# Altium integrated library TI Data Converters Digital to Analog Converter.IntLib: 1533 symbols (part 47 of 99)
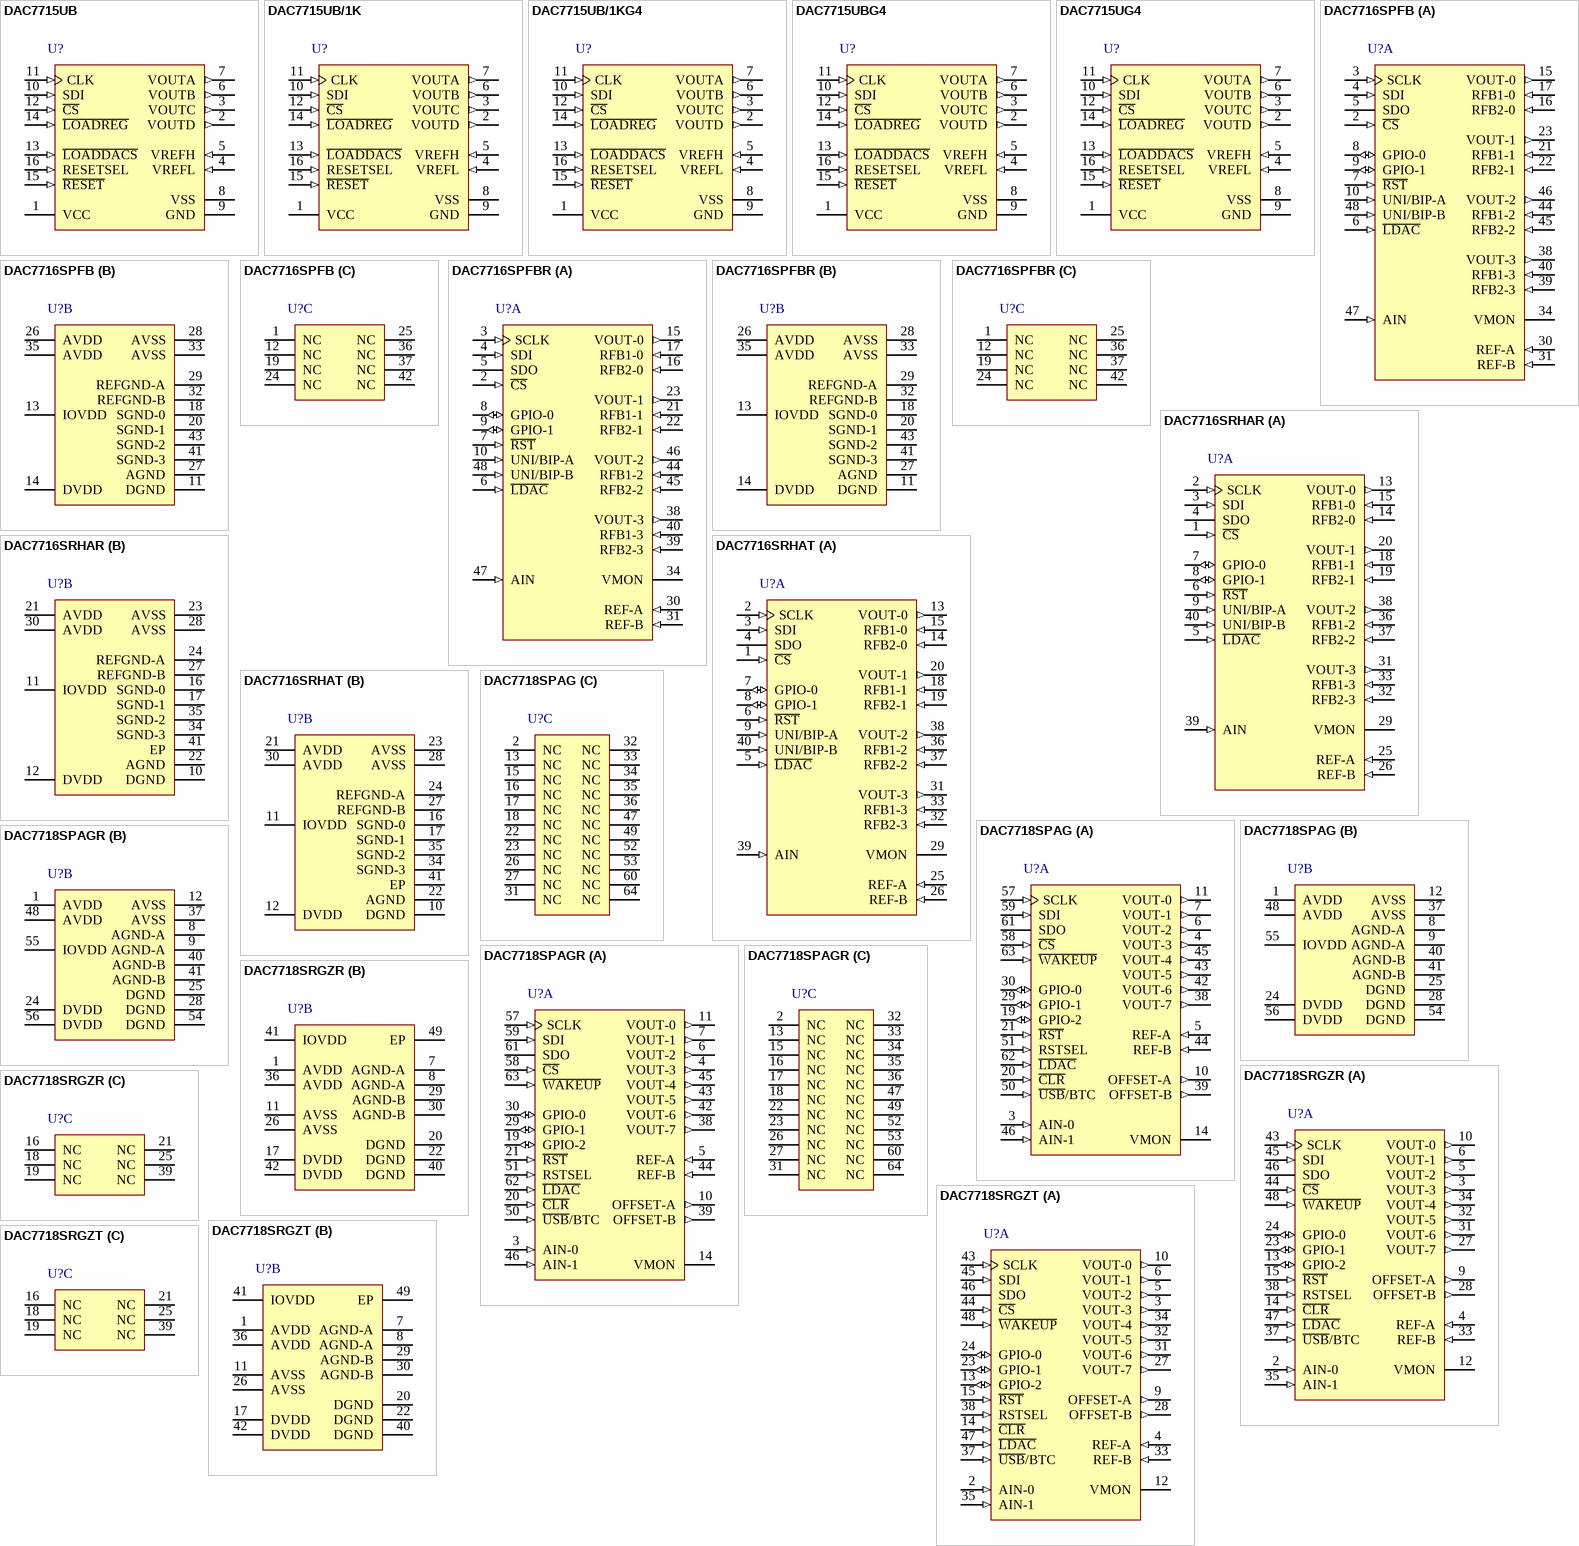
[diagram p119: symbols DAC7715UB to DAC7718SRGZT]

## DAC7718SPAGR
designator U?
Octal, Low Power, 12-Bit, +/- 16.5 V Output Serial Input DAC, -40 to 85 degC, 64-pin QFP (PAG64), Green (RoHS & no Sb/Br); Manufacturer: Texas Instruments; PartNumber: DAC7718SPAGR; DAC Channels: 8; DNL(Max)(+/-LSB): 1; Interface: Serial SPI; Power Consumption(Typ)(mW): 115; Resolution(Bits): 12; Settling Time(us): 10; SubFamily: Precision DAC (=<10MSPS); DatasheetVersion: SBAS361A; PackageVersion: 4040282/C, 11/1996; PackageReference: PAG64; PackageDescription: 64-Pin Plastic Flat Pack, Body 10 x 10 mm, Pitch 0.50 mm; Supplier 1: Digi-Key; Supplier Part Number 1: DAC7718SPAGR-ND; Supplier 2: Mouser; Supplier Part Number 2: 595-DAC7718SPAGR; Eco-Plan: Green (RoHS & no Sb/Br); INL(Max)(+/-LSB): 1; Mounting Technology: Surface Mount; Code_JEDEC: MS-026; ComponentLink1Description: Manufacturer URL; ComponentLink1URL: http://www.ti.com/; ComponentLink2Description: Datasheet; ComponentLink2URL: http://www.ti.com/general/docs/lit/getliterature.tsp?genericPartNumber=DAC7718&fileType=pdf; ComponentLink3Description: Package Specification; ComponentLink3URL: http://www.ti.com/lit/ml/mtqf006a/mtqf006a.pdf
footprint TI-PAG64_N (QFP, 64-Leads, Body 10x10mm, Pitch 0.5mm, IPC Medium Density)
footprint TI-PAG64_L (QFP, 64-Leads, Body 10x10mm, Pitch 0.5mm, IPC High Density)
footprint TI-PAG64_M (QFP, 64-Leads, Body 10x10mm, Pitch 0.5mm, IPC Low Density)
part A pins: 3 AIN-0 (in) "Auxiliary analog input 0, directly routed to the analog mux", 4 VOUT-3 (out) "DAC-3 output", 5 REF-A (in) "Group A(1) reference input", 6 VOUT-2 (out) "DAC-2 output", 7 VOUT-1 (out) "DAC-1 output", 10 OFFSET-A (out) "OFFSET DAC-A analog output. Must be connected to AGND-A during single power-supply operation (AVSS = 0V). This pin is not intended to drive an external load.", 11 VOUT-0 (out) "DAC-0 output", 14 VMON (hiz) "Analog monitor output. This pin is either in Hi-Z status, connected to one of the eight DAC outputs, reference buffer outputs, offset DAC outputs, or one of the auxiliary analog inputs, depending on the content of the (See Datasheet)", 19 GPIO-2 (io) "General-purpose digital input/output 2. This pin is a bidirectional digital input/output, open-drain and requires an external pull-up resistor. See the GPIO Pins section for details.", 20 ~{CLR} (in) "Clear input, level triggered. When the C\L\R\ pin is logic '0', all VOUT-X pins connect to AGND-x through switches and internal low-impedance. When the C\L\R\ pin is logic '1', all VOUT-X pins connect to the amplifier (See Datasheet)", 21 ~{RST} (in) "Reset input (active low). Logic low on this pin resets the DAC registers and DACs to the values defined by the RSTSEL pin. C\S\ must be logic high when R\S\T\ is active.", 29 GPIO-1 (io) "General-purpose digital input/output 1. This pin is a bidirectional digital input/output, open-drain and requires an external resistor. See the GPIO Pins section for details.", 30 GPIO-0 (io) "General-purpose digital input/output 0. This pin is a bidirectional digital input/output, open-drain and requires an external resistor. See the GPIO Pins section for details.", 38 VOUT-7 (out) "DAC-7 output", 39 OFFSET-B (out) "OFFSET DAC-B analog output. Must be connected to AGND-B during single-supply operation (AVSS = 0V).", 42 VOUT-6 (out) "DAC-6 output", 43 VOUT-5 (out) "DAC-5 output", 44 REF-B (in) "Group B reference input", 45 VOUT-4 (out) "DAC-4 output", 46 AIN-1 (in) "Auxiliary analog input 1, directly routed to the analog mux", 50 ~{USB}/BTC (in) "Data format selection of Input DAC data and Offset DAC data. Data are in straight binary format when connected to DGND or in twos complement format when connected to IOVDD. The command data are always in straight binary (See Datasheet)", 51 RSTSEL (in) "Output reset selection. Selects the output voltage on the VOUT pin after power-on or hardware reset. Refer to the Power-On Reset section for details.", 57 SCLK (in) "SPI bus serial clock input", 58 ~{CS} (in) "SPI bus chip select input (active low). Data are not clocked into SDI unless C\S\ is low. When C\S\ is high, SDO is in a high-impedance state and the SCLK and SDI signals are blocked from the device.", 59 SDI (in) "SPI bus serial data input", 61 SDO (hiz) "SPI bus serial data output. When the DSDO bit = '0', the SDO pin works as an output in normal operation. When the DSDO bit = '1', SDO is always in a Hi-Z state, regardless of the C\S\ pin status. Refer to the Timing Diagrams (See Datasheet)", 62 ~{LDAC} (in) "Load DAC latch control input (active low). When L\D\A\C\ is low, the DAC latch is transparent and the contents of the DAC Data Register are transferred to it. The DAC output changes to the corresponding level simultaneously (See Datasheet)", 63 ~{WAKEUP} (in) "Wake-up input (active low). Restores the SPI from sleep to normal operation. See the Daisy-Chain Operation section for details."
part B pins: 1 AVDD (power) "Positive analog power supply", 8 AGND-A (power) "Group A analog ground and the ground of REF-A. This pin must be tied to AGND-B and DGND.", 9 AGND-A (power) "Group A analog ground and the ground of REF-A. This pin must be tied to AGND-B and DGND.", 12 AVSS (power) "Negative analog power supply", 24 DVDD (power) "Digital power supply", 25 DGND (power) "Digital ground", 28 DGND (power) "Digital ground", 37 AVSS (power) "Negative analog power supply", 40 AGND-B (power) "Group B(1) analog ground and the ground of REF-B. This pin must be tied to AGND-A and DGND.", 41 AGND-B (power) "Group B analog ground and the ground of REF-B. This pin must be tied to AGND-A and DGND.", 48 AVDD (power) "Positive analog power supply", 54 DGND (power) "Digital ground", 55 IOVDD (power) "Interface power", 56 DVDD (power) "Digital power supply"
part C pins: 2 NC "Not connected", 13 NC "Not connected", 15 NC "Not connected", 16 NC "Not connected", 17 NC "Not connected", 18 NC "Not connected", 22 NC "Not connected", 23 NC "Not connected", 26 NC "Not connected", 27 NC "Not connected", 31 NC "Not connected", 32 NC "Not connected", 33 NC "Not connected", 34 NC "Not connected", 35 NC "Not connected", 36 NC "Not connected", 47 NC "Not connected", 49 NC "Not connected", 52 NC "Not connected", 53 NC "Not connected", 60 NC "Not connected", 64 NC "Not connected"

## DAC7718SRGZR
designator U?
Octal, Low Power, 12-Bit, +/- 16.5 V Output Serial Input DAC, -40 to 85 degC, 48-pin QFN (RGZ48), Green (RoHS & no Sb/Br); Manufacturer: Texas Instruments; PartNumber: DAC7718SRGZR; DAC Channels: 8; DNL(Max)(+/-LSB): 1; Interface: Serial SPI; Power Consumption(Typ)(mW): 115; Resolution(Bits): 12; Settling Time(us): 10; SubFamily: Precision DAC (=<10MSPS); DatasheetVersion: SBAS361A; PackageVersion: 4204101/F, 06/2011; PackageReference: RGZ48-5600X5600TP; PackageDescription: 48-Lead, Plastic Flat Pack, Body Size 7 x 7 mm, Pitch 0.5 mm; Supplier 1: Digi-Key; Supplier Part Number 1: DAC7718SRGZR-ND; Supplier 2: Mouser; Supplier Part Number 2: 595-DAC7718SRGZR; Eco-Plan: Green (RoHS & no Sb/Br); INL(Max)(+/-LSB): 1; Mounting Technology: Surface Mount; Code_JEDEC: MO-220; ComponentLink1Description: Manufacturer URL; ComponentLink1URL: http://www.ti.com/; ComponentLink2Description: Datasheet; ComponentLink2URL: http://www.ti.com/general/docs/lit/getliterature.tsp?genericPartNumber=DAC7718&fileType=pdf; ComponentLink3Description: Package Specification; ComponentLink3URL: http://www.ti.com/lit/ml/mpqf123e/mpqf123e.pdf
footprint TI-RGZ48-5600X5600TP_V (QFN, 48-Leads, Body 7x7mm, Pitch 0.5mm, Thermal Pad 5.6x5.6mm)
part A pins: 2 AIN-0 (in) "Auxiliary analog input 0, directly routed to the analog mux", 3 VOUT-3 (out) "DAC-3 output", 4 REF-A (in) "Group A(1) reference input", 5 VOUT-2 (out) "DAC-2 output", 6 VOUT-1 (out) "DAC-1 output", 9 OFFSET-A (out) "OFFSET DAC-A analog output. Must be connected to AGND-A during single power-supply operation (AVSS = 0V). This pin is not intended to drive an external load.", 10 VOUT-0 (out) "DAC-0 output", 12 VMON (hiz) "Analog monitor output. This pin is either in Hi-Z status, connected to one of the eight DAC outputs, reference buffer outputs, offset DAC outputs, or one of the auxiliary analog inputs, depending on the content of the (See Datasheet)", 13 GPIO-2 (io) "General-purpose digital input/output 2. This pin is a bidirectional digital input/output, open-drain and requires an external pull-up resistor. See the GPIO Pins section for details.", 14 ~{CLR} (in) "Clear input, level triggered. When the C\L\R\ pin is logic '0', all VOUT-X pins connect to AGND-x through switches and internal low-impedance. When the C\L\R\ pin is logic '1', all VOUT-X pins connect to the amplifier (See Datasheet)", 15 ~{RST} (in) "Reset input (active low). Logic low on this pin resets the DAC registers and DACs to the values defined by the RSTSEL pin. C\S\ must be logic high when R\S\T\ is active.", 23 GPIO-1 (io) "General-purpose digital input/output 1. This pin is a bidirectional digital input/output, open-drain and requires an external resistor. See the GPIO Pins section for details.", 24 GPIO-0 (io) "General-purpose digital input/output 0. This pin is a bidirectional digital input/output, open-drain and requires an external resistor. See the GPIO Pins section for details.", 27 VOUT-7 (out) "DAC-7 output", 28 OFFSET-B (out) "OFFSET DAC-B analog output. Must be connected to AGND-B during single-supply operation (AVSS = 0V).", 31 VOUT-6 (out) "DAC-6 output", 32 VOUT-5 (out) "DAC-5 output", 33 REF-B (in) "Group B reference input", 34 VOUT-4 (out) "DAC-4 output", 35 AIN-1 (in) "Auxiliary analog input 1, directly routed to the analog mux", 37 ~{USB}/BTC (in) "Data format selection of Input DAC data and Offset DAC data. Data are in straight binary format when connected to DGND or in twos complement format when connected to IOVDD. The command data are always in straight binary (See Datasheet)", 38 RSTSEL (in) "Output reset selection. Selects the output voltage on the VOUT pin after power-on or hardware reset. Refer to the Power-On Reset section for details.", 43 SCLK (in) "SPI bus serial clock input", 44 ~{CS} (in) "SPI bus chip select input (active low). Data are not clocked into SDI unless C\S\ is low. When C\S\ is high, SDO is in a high-impedance state and the SCLK and SDI signals are blocked from the device.", 45 SDI (in) "SPI bus serial data input", 46 SDO (hiz) "SPI bus serial data output. When the DSDO bit = '0', the SDO pin works as an output in normal operation. When the DSDO bit = '1', SDO is always in a Hi-Z state, regardless of the CS pin status. Refer to the Timing Diagrams (See Datasheet)", 47 ~{LDAC} (in) "Load DAC latch control input (active low). When L\D\A\C\ is low, the DAC latch is transparent and the contents of the DAC Data Register are transferred to it. The DAC output changes to the corresponding level simultaneously (See Datasheet)", 48 ~{WAKEUP} (in) "Wake-up input (active low). Restores the SPI from sleep to normal operation. See the Daisy-Chain Operation section for details."
part B pins: 1 AVDD (power) "Positive analog power supply", 7 AGND-A (power) "Group A analog ground and the ground of REF-A. This pin must be tied to AGND-B and DGND.", 8 AGND-A (power) "Group A analog ground and the ground of REF-A. This pin must be tied to AGND-B and DGND.", 11 AVSS (power) "Negative analog power supply", 17 DVDD (power) "Digital power supply", 20 DGND (power) "Digital ground", 22 DGND (power) "Digital ground", 26 AVSS (power) "Negative analog power supply", 29 AGND-B (power) "Group B(1) analog ground and the ground of REF-B. This pin must be tied to AGND-A and DGND.", 30 AGND-B (power) "Group B analog ground and the ground of REF-B. This pin must be tied to AGND-A and DGND.", 36 AVDD (power) "Positive analog power supply", 40 DGND (power) "Digital ground", 41 IOVDD (power) "Interface power", 42 DVDD (power) "Digital power supply", 49 EP "The thermal pad is internally connected to the substrate. This pad can be connected to AVSS or left floating. Keep the thermal pad separate from the digital ground, if possible."
part C pins: 16 NC "Not connected", 18 NC "Not connected", 19 NC "Not connected", 21 NC "Not connected", 25 NC "Not connected", 39 NC "Not connected"

## DAC7718SRGZT
designator U?
Octal, Low Power, 12-Bit, +/- 16.5 V Output Serial Input DAC, -40 to 85 degC, 48-pin QFN (RGZ48), Green (RoHS & no Sb/Br); Manufacturer: Texas Instruments; PartNumber: DAC7718SRGZT; DAC Channels: 8; DNL(Max)(+/-LSB): 1; Interface: Serial SPI; Power Consumption(Typ)(mW): 115; Resolution(Bits): 12; Settling Time(us): 10; SubFamily: Precision DAC (=<10MSPS); DatasheetVersion: SBAS361A; PackageVersion: 4204101/F, 06/2011; PackageReference: RGZ48-5600X5600TP; PackageDescription: 48-Lead, Plastic Flat Pack, Body Size 7 x 7 mm, Pitch 0.5 mm; Supplier 1: Digi-Key; Supplier Part Number 1: 296-25558-2-ND; Supplier 2: Digi-Key; Supplier Part Number 2: 296-25558-1-ND; Supplier 3: Digi-Key; Supplier Part Number 3: 296-25558-6-ND; Supplier 4: Farnell; Supplier Part Number 4: 1815723; Supplier 5: Newark; Supplier Part Number 5: 60R2409; Supplier 6: Mouser; Supplier Part Number 6: 595-DAC7718SRGZT; Eco-Plan: Green (RoHS & no Sb/Br); INL(Max)(+/-LSB): 1; Mounting Technology: Surface Mount; Code_JEDEC: MO-220; ComponentLink1Description: Manufacturer URL; ComponentLink1URL: http://www.ti.com/; ComponentLink2Description: Datasheet; ComponentLink2URL: http://www.ti.com/general/docs/lit/getliterature.tsp?genericPartNumber=DAC7718&fileType=pdf; ComponentLink3Description: Package Specification; ComponentLink3URL: http://www.ti.com/lit/ml/mpqf123e/mpqf123e.pdf
footprint TI-RGZ48-5600X5600TP_V (QFN, 48-Leads, Body 7x7mm, Pitch 0.5mm, Thermal Pad 5.6x5.6mm)
part A pins: 2 AIN-0 (in) "Auxiliary analog input 0, directly routed to the analog mux", 3 VOUT-3 (out) "DAC-3 output", 4 REF-A (in) "Group A(1) reference input", 5 VOUT-2 (out) "DAC-2 output", 6 VOUT-1 (out) "DAC-1 output", 9 OFFSET-A (out) "OFFSET DAC-A analog output. Must be connected to AGND-A during single power-supply operation (AVSS = 0V). This pin is not intended to drive an external load.", 10 VOUT-0 (out) "DAC-0 output", 12 VMON (hiz) "Analog monitor output. This pin is either in Hi-Z status, connected to one of the eight DAC outputs, reference buffer outputs, offset DAC outputs, or one of the auxiliary analog inputs, depending on the content of the (See Datasheet)", 13 GPIO-2 (io) "General-purpose digital input/output 2. This pin is a bidirectional digital input/output, open-drain and requires an external pull-up resistor. See the GPIO Pins section for details.", 14 ~{CLR} (in) "Clear input, level triggered. When the C\L\R\ pin is logic '0', all VOUT-X pins connect to AGND-x through switches and internal low-impedance. When the C\L\R\ pin is logic '1', all VOUT-X pins connect to the amplifier (See Datasheet)", 15 ~{RST} (in) "Reset input (active low). Logic low on this pin resets the DAC registers and DACs to the values defined by the RSTSEL pin. C\S\ must be logic high when R\S\T\ is active.", 23 GPIO-1 (io) "General-purpose digital input/output 1. This pin is a bidirectional digital input/output, open-drain and requires an external resistor. See the GPIO Pins section for details.", 24 GPIO-0 (io) "General-purpose digital input/output 0. This pin is a bidirectional digital input/output, open-drain and requires an external resistor. See the GPIO Pins section for details.", 27 VOUT-7 (out) "DAC-7 output", 28 OFFSET-B (out) "OFFSET DAC-B analog output. Must be connected to AGND-B during single-supply operation (AVSS = 0V).", 31 VOUT-6 (out) "DAC-6 output", 32 VOUT-5 (out) "DAC-5 output", 33 REF-B (in) "Group B reference input", 34 VOUT-4 (out) "DAC-4 output", 35 AIN-1 (in) "Auxiliary analog input 1, directly routed to the analog mux", 37 ~{USB}/BTC (in) "Data format selection of Input DAC data and Offset DAC data. Data are in straight binary format when connected to DGND or in twos complement format when connected to IOVDD. The command data are always in straight binary (See Datasheet)", 38 RSTSEL (in) "Output reset selection. Selects the output voltage on the VOUT pin after power-on or hardware reset. Refer to the Power-On Reset section for details.", 43 SCLK (in) "SPI bus serial clock input", 44 ~{CS} (in) "SPI bus chip select input (active low). Data are not clocked into SDI unless C\S\ is low. When C\S\ is high, SDO is in a high-impedance state and the SCLK and SDI signals are blocked from the device.", 45 SDI (in) "SPI bus serial data input", 46 SDO (hiz) "SPI bus serial data output. When the DSDO bit = '0', the SDO pin works as an output in normal operation. When the DSDO bit = '1', SDO is always in a Hi-Z state, regardless of the CS pin status. Refer to the Timing Diagrams (See Datasheet)", 47 ~{LDAC} (in) "Load DAC latch control input (active low). When L\D\A\C\ is low, the DAC latch is transparent and the contents of the DAC Data Register are transferred to it. The DAC output changes to the corresponding level simultaneously (See Datasheet)", 48 ~{WAKEUP} (in) "Wake-up input (active low). Restores the SPI from sleep to normal operation. See the Daisy-Chain Operation section for details."
part B pins: 1 AVDD (power) "Positive analog power supply", 7 AGND-A (power) "Group A analog ground and the ground of REF-A. This pin must be tied to AGND-B and DGND.", 8 AGND-A (power) "Group A analog ground and the ground of REF-A. This pin must be tied to AGND-B and DGND.", 11 AVSS (power) "Negative analog power supply", 17 DVDD (power) "Digital power supply", 20 DGND (power) "Digital ground", 22 DGND (power) "Digital ground", 26 AVSS (power) "Negative analog power supply", 29 AGND-B (power) "Group B(1) analog ground and the ground of REF-B. This pin must be tied to AGND-A and DGND.", 30 AGND-B (power) "Group B analog ground and the ground of REF-B. This pin must be tied to AGND-A and DGND.", 36 AVDD (power) "Positive analog power supply", 40 DGND (power) "Digital ground", 41 IOVDD (power) "Interface power", 42 DVDD (power) "Digital power supply", 49 EP "The thermal pad is internally connected to the substrate. This pad can be connected to AVSS or left floating. Keep the thermal pad separate from the digital ground, if possible."
part C pins: 16 NC "Not connected", 18 NC "Not connected", 19 NC "Not connected", 21 NC "Not connected", 25 NC "Not connected", 39 NC "Not connected"

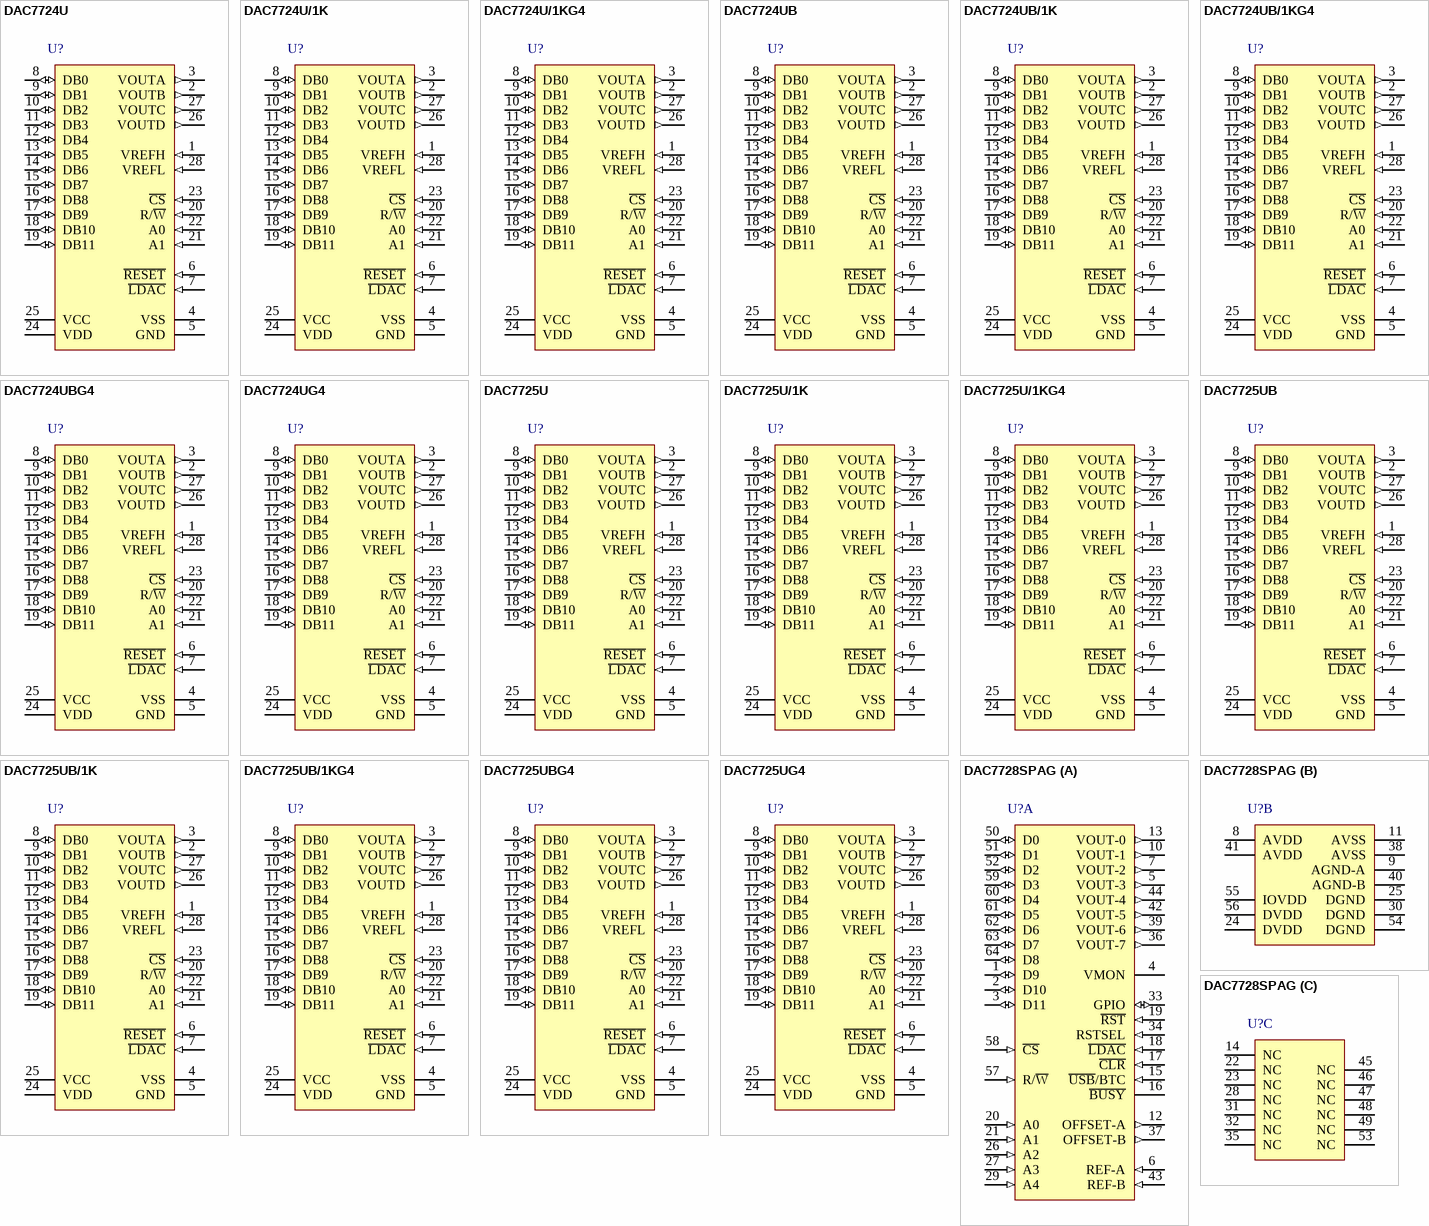
[diagram p36: symbols DAC7724U to DAC7728SPAG]

## DAC7724U
designator U?
12-Bit Quad Voltage Output DAC, -40 to 85 degC, 28-pin SOIC (DW28), Green (RoHS & no Sb/Br); Manufacturer: Texas Instruments; PartNumber: DAC7724U; DAC Channels: 4; DNL(Max)(+/-LSB): 1; INL(Max)(+/-LSB): 2; Interface: Parallel; Power Consumption(Typ)(mW): 45; Resolution(Bits): 12; Settling Time(us): 8; SubFamily: Precision DAC (=<10MSPS); DatasheetVersion: SBAS112; PackageVersion: 4040000-6/G, 01/2011; PackageReference: DW28; PackageDescription: 28-Pin Plastic Small Outline, Body 17.90 x 7.50 mm, Pitch 1.27 mm; Supplier 1: Digi-Key; Supplier Part Number 1: DAC7724U-ND; Supplier 2: Farnell; Supplier Part Number 2: 1384852; Supplier 3: Newark; Supplier Part Number 3: 16M2420; Supplier 4: Mouser; Supplier Part Number 4: 595-DAC7724U; Eco-Plan: Green (RoHS & no Sb/Br); Mounting Technology: Surface Mount; Code_JEDEC: MS-013; ComponentLink1Description: Manufacturer URL; ComponentLink1URL: http://www.ti.com/; ComponentLink2Description: Datasheet; ComponentLink2URL: http://www.ti.com/general/docs/lit/getliterature.tsp?genericPartNumber=DAC7724&fileType=pdf; ComponentLink3Description: Package Specification; ComponentLink3URL: http://www.ti.com/lit/ml/mpds175a/mpds175a.pdf
footprint TI-DW28_N (SOIC, 28-Leads, Body 17.9x7.5mm, Pitch 1.27mm, IPC Medium Density)
footprint TI-DW28_L (SOIC, 28-Leads, Body 17.9x7.5mm, Pitch 1.27mm, IPC High Density)
footprint TI-DW28_M (SOIC, 28-Leads, Body 17.9x7.5mm, Pitch 1.27mm, IPC Low Density)
pins: 1 VREFH (in) "Reference Input Voltage High. Sets maximum output voltage for all DACs.", 2 VOUTB (out) "DAC B Voltage Output.", 3 VOUTA (out) "DAC A Voltage Output.", 4 VSS (power) "Negative Analog Supply Voltage, 0V or -15V.", 5 GND (power) "Ground.", 6 ~{RESET} (in) "Asynchronous Reset Input. Sets DAC and input registers to either mid-scale (800H, DAC7724) or zero-scale (000H, DAC7725) when LOW.", 7 ~{LDAC} (in) "Load DAC Input. All DAC Registers are transparent when LOW.", 8 DB0 (io) "Data Bit 0. Least significant bit of 12-bit word.", 9 DB1 (io) "Data Bit 1", 10 DB2 (io) "Data Bit 2", 11 DB3 (io) "Data Bit 3", 12 DB4 (io) "Data Bit 4", 13 DB5 (io) "Data Bit 5", 14 DB6 (io) "Data Bit 6", 15 DB7 (io) "Data Bit 7", 16 DB8 (io) "Data Bit 8", 17 DB9 (io) "Data Bit 9", 18 DB10 (io) "Data Bit 10", 19 DB11 (io) "Data Bit 11. Most significant bit of 12-bit word.", 20 R/~{W} (in) "Read/Write Control Input (read = HIGH, write = LOW).", 21 A1 (in) "Register/DAC Select (C or D = HIGH, A or B = LOW).", 22 A0 (in) "Register/DAC Select (B or D = HIGH, A or C = LOW).", 23 ~{CS} (in) "Chip Select Input.", 24 VDD (power) "Positive Digital Supply, +5V.", 25 VCC (power) "Positive Analog Supply Voltage, +15V nominal.", 26 VOUTD (out) "DAC D Voltage Output.", 27 VOUTC (out) "DAC C Voltage Output.", 28 VREFL (in) "Reference Input Voltage Low. Sets minimum output voltage for all DACs."

## DAC7724U/1K
designator U?
12-Bit Quad Voltage Output DAC, -40 to 85 degC, 28-pin SOIC (DW28), Green (RoHS & no Sb/Br); Manufacturer: Texas Instruments; PartNumber: DAC7724U/1K; DAC Channels: 4; DNL(Max)(+/-LSB): 1; INL(Max)(+/-LSB): 2; Interface: Parallel; Power Consumption(Typ)(mW): 45; Resolution(Bits): 12; Settling Time(us): 8; SubFamily: Precision DAC (=<10MSPS); DatasheetVersion: SBAS112; PackageVersion: 4040000-6/G, 01/2011; PackageReference: DW28; PackageDescription: 28-Pin Plastic Small Outline, Body 17.90 x 7.50 mm, Pitch 1.27 mm; Supplier 1: Digi-Key; Supplier Part Number 1: DAC7724U/1K-ND; Supplier 2: Mouser; Supplier Part Number 2: 595-DAC7724U/1K; Eco-Plan: Green (RoHS & no Sb/Br); Mounting Technology: Surface Mount; Code_JEDEC: MS-013; ComponentLink1Description: Manufacturer URL; ComponentLink1URL: http://www.ti.com/; ComponentLink2Description: Datasheet; ComponentLink2URL: http://www.ti.com/general/docs/lit/getliterature.tsp?genericPartNumber=DAC7724&fileType=pdf; ComponentLink3Description: Package Specification; ComponentLink3URL: http://www.ti.com/lit/ml/mpds175a/mpds175a.pdf
footprint TI-DW28_N (SOIC, 28-Leads, Body 17.9x7.5mm, Pitch 1.27mm, IPC Medium Density)
footprint TI-DW28_L (SOIC, 28-Leads, Body 17.9x7.5mm, Pitch 1.27mm, IPC High Density)
footprint TI-DW28_M (SOIC, 28-Leads, Body 17.9x7.5mm, Pitch 1.27mm, IPC Low Density)
pins: 1 VREFH (in) "Reference Input Voltage High. Sets maximum output voltage for all DACs.", 2 VOUTB (out) "DAC B Voltage Output.", 3 VOUTA (out) "DAC A Voltage Output.", 4 VSS (power) "Negative Analog Supply Voltage, 0V or -15V.", 5 GND (power) "Ground.", 6 ~{RESET} (in) "Asynchronous Reset Input. Sets DAC and input registers to either mid-scale (800H, DAC7724) or zero-scale (000H, DAC7725) when LOW.", 7 ~{LDAC} (in) "Load DAC Input. All DAC Registers are transparent when LOW.", 8 DB0 (io) "Data Bit 0. Least significant bit of 12-bit word.", 9 DB1 (io) "Data Bit 1", 10 DB2 (io) "Data Bit 2", 11 DB3 (io) "Data Bit 3", 12 DB4 (io) "Data Bit 4", 13 DB5 (io) "Data Bit 5", 14 DB6 (io) "Data Bit 6", 15 DB7 (io) "Data Bit 7", 16 DB8 (io) "Data Bit 8", 17 DB9 (io) "Data Bit 9", 18 DB10 (io) "Data Bit 10", 19 DB11 (io) "Data Bit 11. Most significant bit of 12-bit word.", 20 R/~{W} (in) "Read/Write Control Input (read = HIGH, write = LOW).", 21 A1 (in) "Register/DAC Select (C or D = HIGH, A or B = LOW).", 22 A0 (in) "Register/DAC Select (B or D = HIGH, A or C = LOW).", 23 ~{CS} (in) "Chip Select Input.", 24 VDD (power) "Positive Digital Supply, +5V.", 25 VCC (power) "Positive Analog Supply Voltage, +15V nominal.", 26 VOUTD (out) "DAC D Voltage Output.", 27 VOUTC (out) "DAC C Voltage Output.", 28 VREFL (in) "Reference Input Voltage Low. Sets minimum output voltage for all DACs."

## DAC7724U/1KG4
designator U?
12-Bit Quad Voltage Output DAC, -40 to 85 degC, 28-pin SOIC (DW28), Green (RoHS & no Sb/Br); Manufacturer: Texas Instruments; PartNumber: DAC7724U/1KG4; DAC Channels: 4; DNL(Max)(+/-LSB): 1; INL(Max)(+/-LSB): 2; Interface: Parallel; Power Consumption(Typ)(mW): 45; Resolution(Bits): 12; Settling Time(us): 8; SubFamily: Precision DAC (=<10MSPS); DatasheetVersion: SBAS112; PackageVersion: 4040000-6/G, 01/2011; PackageReference: DW28; PackageDescription: 28-Pin Plastic Small Outline, Body 17.90 x 7.50 mm, Pitch 1.27 mm; Supplier 1: Digi-Key; Supplier Part Number 1: DAC7724U/1KG4-ND; Supplier 2: Mouser; Supplier Part Number 2: 595-DAC7724U/1KG4; Eco-Plan: Green (RoHS & no Sb/Br); Mounting Technology: Surface Mount; Code_JEDEC: MS-013; ComponentLink1Description: Manufacturer URL; ComponentLink1URL: http://www.ti.com/; ComponentLink2Description: Datasheet; ComponentLink2URL: http://www.ti.com/general/docs/lit/getliterature.tsp?genericPartNumber=DAC7724&fileType=pdf; ComponentLink3Description: Package Specification; ComponentLink3URL: http://www.ti.com/lit/ml/mpds175a/mpds175a.pdf
footprint TI-DW28_N (SOIC, 28-Leads, Body 17.9x7.5mm, Pitch 1.27mm, IPC Medium Density)
footprint TI-DW28_L (SOIC, 28-Leads, Body 17.9x7.5mm, Pitch 1.27mm, IPC High Density)
footprint TI-DW28_M (SOIC, 28-Leads, Body 17.9x7.5mm, Pitch 1.27mm, IPC Low Density)
pins: 1 VREFH (in) "Reference Input Voltage High. Sets maximum output voltage for all DACs.", 2 VOUTB (out) "DAC B Voltage Output.", 3 VOUTA (out) "DAC A Voltage Output.", 4 VSS (power) "Negative Analog Supply Voltage, 0V or -15V.", 5 GND (power) "Ground.", 6 ~{RESET} (in) "Asynchronous Reset Input. Sets DAC and input registers to either mid-scale (800H, DAC7724) or zero-scale (000H, DAC7725) when LOW.", 7 ~{LDAC} (in) "Load DAC Input. All DAC Registers are transparent when LOW.", 8 DB0 (io) "Data Bit 0. Least significant bit of 12-bit word.", 9 DB1 (io) "Data Bit 1", 10 DB2 (io) "Data Bit 2", 11 DB3 (io) "Data Bit 3", 12 DB4 (io) "Data Bit 4", 13 DB5 (io) "Data Bit 5", 14 DB6 (io) "Data Bit 6", 15 DB7 (io) "Data Bit 7", 16 DB8 (io) "Data Bit 8", 17 DB9 (io) "Data Bit 9", 18 DB10 (io) "Data Bit 10", 19 DB11 (io) "Data Bit 11. Most significant bit of 12-bit word.", 20 R/~{W} (in) "Read/Write Control Input (read = HIGH, write = LOW).", 21 A1 (in) "Register/DAC Select (C or D = HIGH, A or B = LOW).", 22 A0 (in) "Register/DAC Select (B or D = HIGH, A or C = LOW).", 23 ~{CS} (in) "Chip Select Input.", 24 VDD (power) "Positive Digital Supply, +5V.", 25 VCC (power) "Positive Analog Supply Voltage, +15V nominal.", 26 VOUTD (out) "DAC D Voltage Output.", 27 VOUTC (out) "DAC C Voltage Output.", 28 VREFL (in) "Reference Input Voltage Low. Sets minimum output voltage for all DACs."

## DAC7724UB
designator U?
12-Bit Quad Voltage Output DAC, -40 to 85 degC, 28-pin SOIC (DW28), Green (RoHS & no Sb/Br); Manufacturer: Texas Instruments; PartNumber: DAC7724UB; DAC Channels: 4; DNL(Max)(+/-LSB): 1; Interface: Parallel; Power Consumption(Typ)(mW): 45; Resolution(Bits): 12; Settling Time(us): 8; SubFamily: Precision DAC (=<10MSPS); DatasheetVersion: SBAS112; PackageVersion: 4040000-6/G, 01/2011; PackageReference: DW28; PackageDescription: 28-Pin Plastic Small Outline, Body 17.90 x 7.50 mm, Pitch 1.27 mm; Supplier 1: Digi-Key; Supplier Part Number 1: DAC7724UB-ND; Supplier 2: Farnell; Supplier Part Number 2: 1295975; Supplier 3: Newark; Supplier Part Number 3: 74C9245; Supplier 4: Mouser; Supplier Part Number 4: 595-DAC7724UB; Eco-Plan: Green (RoHS & no Sb/Br); INL(Max)(+/-LSB): 1; Mounting Technology: Surface Mount; Code_JEDEC: MS-013; ComponentLink1Description: Manufacturer URL; ComponentLink1URL: http://www.ti.com/; ComponentLink2Description: Datasheet; ComponentLink2URL: http://www.ti.com/general/docs/lit/getliterature.tsp?genericPartNumber=DAC7724&fileType=pdf; ComponentLink3Description: Package Specification; ComponentLink3URL: http://www.ti.com/lit/ml/mpds175a/mpds175a.pdf
footprint TI-DW28_N (SOIC, 28-Leads, Body 17.9x7.5mm, Pitch 1.27mm, IPC Medium Density)
footprint TI-DW28_L (SOIC, 28-Leads, Body 17.9x7.5mm, Pitch 1.27mm, IPC High Density)
footprint TI-DW28_M (SOIC, 28-Leads, Body 17.9x7.5mm, Pitch 1.27mm, IPC Low Density)
pins: 1 VREFH (in) "Reference Input Voltage High. Sets maximum output voltage for all DACs.", 2 VOUTB (out) "DAC B Voltage Output.", 3 VOUTA (out) "DAC A Voltage Output.", 4 VSS (power) "Negative Analog Supply Voltage, 0V or -15V.", 5 GND (power) "Ground.", 6 ~{RESET} (in) "Asynchronous Reset Input. Sets DAC and input registers to either mid-scale (800H, DAC7724) or zero-scale (000H, DAC7725) when LOW.", 7 ~{LDAC} (in) "Load DAC Input. All DAC Registers are transparent when LOW.", 8 DB0 (io) "Data Bit 0. Least significant bit of 12-bit word.", 9 DB1 (io) "Data Bit 1", 10 DB2 (io) "Data Bit 2", 11 DB3 (io) "Data Bit 3", 12 DB4 (io) "Data Bit 4", 13 DB5 (io) "Data Bit 5", 14 DB6 (io) "Data Bit 6", 15 DB7 (io) "Data Bit 7", 16 DB8 (io) "Data Bit 8", 17 DB9 (io) "Data Bit 9", 18 DB10 (io) "Data Bit 10", 19 DB11 (io) "Data Bit 11. Most significant bit of 12-bit word.", 20 R/~{W} (in) "Read/Write Control Input (read = HIGH, write = LOW).", 21 A1 (in) "Register/DAC Select (C or D = HIGH, A or B = LOW).", 22 A0 (in) "Register/DAC Select (B or D = HIGH, A or C = LOW).", 23 ~{CS} (in) "Chip Select Input.", 24 VDD (power) "Positive Digital Supply, +5V.", 25 VCC (power) "Positive Analog Supply Voltage, +15V nominal.", 26 VOUTD (out) "DAC D Voltage Output.", 27 VOUTC (out) "DAC C Voltage Output.", 28 VREFL (in) "Reference Input Voltage Low. Sets minimum output voltage for all DACs."

## DAC7724UB/1K
designator U?
12-Bit Quad Voltage Output DAC, -40 to 85 degC, 28-pin SOIC (DW28), Green (RoHS & no Sb/Br); Manufacturer: Texas Instruments; PartNumber: DAC7724UB/1K; DAC Channels: 4; DNL(Max)(+/-LSB): 1; Interface: Parallel; Power Consumption(Typ)(mW): 45; Resolution(Bits): 12; Settling Time(us): 8; SubFamily: Precision DAC (=<10MSPS); DatasheetVersion: SBAS112; PackageVersion: 4040000-6/G, 01/2011; PackageReference: DW28; PackageDescription: 28-Pin Plastic Small Outline, Body 17.90 x 7.50 mm, Pitch 1.27 mm; Supplier 1: Digi-Key; Supplier Part Number 1: DAC7724UB/1K-ND; Supplier 2: Mouser; Supplier Part Number 2: 595-DAC7724UB/1K; Eco-Plan: Green (RoHS & no Sb/Br); INL(Max)(+/-LSB): 1; Mounting Technology: Surface Mount; Code_JEDEC: MS-013; ComponentLink1Description: Manufacturer URL; ComponentLink1URL: http://www.ti.com/; ComponentLink2Description: Datasheet; ComponentLink2URL: http://www.ti.com/general/docs/lit/getliterature.tsp?genericPartNumber=DAC7724&fileType=pdf; ComponentLink3Description: Package Specification; ComponentLink3URL: http://www.ti.com/lit/ml/mpds175a/mpds175a.pdf
footprint TI-DW28_N (SOIC, 28-Leads, Body 17.9x7.5mm, Pitch 1.27mm, IPC Medium Density)
footprint TI-DW28_L (SOIC, 28-Leads, Body 17.9x7.5mm, Pitch 1.27mm, IPC High Density)
footprint TI-DW28_M (SOIC, 28-Leads, Body 17.9x7.5mm, Pitch 1.27mm, IPC Low Density)
pins: 1 VREFH (in) "Reference Input Voltage High. Sets maximum output voltage for all DACs.", 2 VOUTB (out) "DAC B Voltage Output.", 3 VOUTA (out) "DAC A Voltage Output.", 4 VSS (power) "Negative Analog Supply Voltage, 0V or -15V.", 5 GND (power) "Ground.", 6 ~{RESET} (in) "Asynchronous Reset Input. Sets DAC and input registers to either mid-scale (800H, DAC7724) or zero-scale (000H, DAC7725) when LOW.", 7 ~{LDAC} (in) "Load DAC Input. All DAC Registers are transparent when LOW.", 8 DB0 (io) "Data Bit 0. Least significant bit of 12-bit word.", 9 DB1 (io) "Data Bit 1", 10 DB2 (io) "Data Bit 2", 11 DB3 (io) "Data Bit 3", 12 DB4 (io) "Data Bit 4", 13 DB5 (io) "Data Bit 5", 14 DB6 (io) "Data Bit 6", 15 DB7 (io) "Data Bit 7", 16 DB8 (io) "Data Bit 8", 17 DB9 (io) "Data Bit 9", 18 DB10 (io) "Data Bit 10", 19 DB11 (io) "Data Bit 11. Most significant bit of 12-bit word.", 20 R/~{W} (in) "Read/Write Control Input (read = HIGH, write = LOW).", 21 A1 (in) "Register/DAC Select (C or D = HIGH, A or B = LOW).", 22 A0 (in) "Register/DAC Select (B or D = HIGH, A or C = LOW).", 23 ~{CS} (in) "Chip Select Input.", 24 VDD (power) "Positive Digital Supply, +5V.", 25 VCC (power) "Positive Analog Supply Voltage, +15V nominal.", 26 VOUTD (out) "DAC D Voltage Output.", 27 VOUTC (out) "DAC C Voltage Output.", 28 VREFL (in) "Reference Input Voltage Low. Sets minimum output voltage for all DACs."

## DAC7724UB/1KG4
designator U?
12-Bit Quad Voltage Output DAC, -40 to 85 degC, 28-pin SOIC (DW28), Green (RoHS & no Sb/Br); Manufacturer: Texas Instruments; PartNumber: DAC7724UB/1KG4; DAC Channels: 4; DNL(Max)(+/-LSB): 1; Interface: Parallel; Power Consumption(Typ)(mW): 45; Resolution(Bits): 12; Settling Time(us): 8; SubFamily: Precision DAC (=<10MSPS); DatasheetVersion: SBAS112; PackageVersion: 4040000-6/G, 01/2011; PackageReference: DW28; PackageDescription: 28-Pin Plastic Small Outline, Body 17.90 x 7.50 mm, Pitch 1.27 mm; Supplier 1: Digi-Key; Supplier Part Number 1: DAC7724UB/1KG4-ND; Supplier 2: Mouser; Supplier Part Number 2: 595-DAC7724UB/1KG4; Eco-Plan: Green (RoHS & no Sb/Br); INL(Max)(+/-LSB): 1; Mounting Technology: Surface Mount; Code_JEDEC: MS-013; ComponentLink1Description: Manufacturer URL; ComponentLink1URL: http://www.ti.com/; ComponentLink2Description: Datasheet; ComponentLink2URL: http://www.ti.com/general/docs/lit/getliterature.tsp?genericPartNumber=DAC7724&fileType=pdf; ComponentLink3Description: Package Specification; ComponentLink3URL: http://www.ti.com/lit/ml/mpds175a/mpds175a.pdf
footprint TI-DW28_N (SOIC, 28-Leads, Body 17.9x7.5mm, Pitch 1.27mm, IPC Medium Density)
footprint TI-DW28_L (SOIC, 28-Leads, Body 17.9x7.5mm, Pitch 1.27mm, IPC High Density)
footprint TI-DW28_M (SOIC, 28-Leads, Body 17.9x7.5mm, Pitch 1.27mm, IPC Low Density)
pins: 1 VREFH (in) "Reference Input Voltage High. Sets maximum output voltage for all DACs.", 2 VOUTB (out) "DAC B Voltage Output.", 3 VOUTA (out) "DAC A Voltage Output.", 4 VSS (power) "Negative Analog Supply Voltage, 0V or -15V.", 5 GND (power) "Ground.", 6 ~{RESET} (in) "Asynchronous Reset Input. Sets DAC and input registers to either mid-scale (800H, DAC7724) or zero-scale (000H, DAC7725) when LOW.", 7 ~{LDAC} (in) "Load DAC Input. All DAC Registers are transparent when LOW.", 8 DB0 (io) "Data Bit 0. Least significant bit of 12-bit word.", 9 DB1 (io) "Data Bit 1", 10 DB2 (io) "Data Bit 2", 11 DB3 (io) "Data Bit 3", 12 DB4 (io) "Data Bit 4", 13 DB5 (io) "Data Bit 5", 14 DB6 (io) "Data Bit 6", 15 DB7 (io) "Data Bit 7", 16 DB8 (io) "Data Bit 8", 17 DB9 (io) "Data Bit 9", 18 DB10 (io) "Data Bit 10", 19 DB11 (io) "Data Bit 11. Most significant bit of 12-bit word.", 20 R/~{W} (in) "Read/Write Control Input (read = HIGH, write = LOW).", 21 A1 (in) "Register/DAC Select (C or D = HIGH, A or B = LOW).", 22 A0 (in) "Register/DAC Select (B or D = HIGH, A or C = LOW).", 23 ~{CS} (in) "Chip Select Input.", 24 VDD (power) "Positive Digital Supply, +5V.", 25 VCC (power) "Positive Analog Supply Voltage, +15V nominal.", 26 VOUTD (out) "DAC D Voltage Output.", 27 VOUTC (out) "DAC C Voltage Output.", 28 VREFL (in) "Reference Input Voltage Low. Sets minimum output voltage for all DACs."

## DAC7724UBG4
designator U?
12-Bit Quad Voltage Output DAC, -40 to 85 degC, 28-pin SOIC (DW28), Green (RoHS & no Sb/Br); Manufacturer: Texas Instruments; PartNumber: DAC7724UBG4; DAC Channels: 4; DNL(Max)(+/-LSB): 1; Interface: Parallel; Power Consumption(Typ)(mW): 45; Resolution(Bits): 12; Settling Time(us): 8; SubFamily: Precision DAC (=<10MSPS); DatasheetVersion: SBAS112; PackageVersion: 4040000-6/G, 01/2011; PackageReference: DW28; PackageDescription: 28-Pin Plastic Small Outline, Body 17.90 x 7.50 mm, Pitch 1.27 mm; Supplier 1: Digi-Key; Supplier Part Number 1: DAC7724UBG4-ND; Supplier 2: Mouser; Supplier Part Number 2: 595-DAC7724UBG4; Eco-Plan: Green (RoHS & no Sb/Br); INL(Max)(+/-LSB): 1; Mounting Technology: Surface Mount; Code_JEDEC: MS-013; ComponentLink1Description: Manufacturer URL; ComponentLink1URL: http://www.ti.com/; ComponentLink2Description: Datasheet; ComponentLink2URL: http://www.ti.com/general/docs/lit/getliterature.tsp?genericPartNumber=DAC7724&fileType=pdf; ComponentLink3Description: Package Specification; ComponentLink3URL: http://www.ti.com/lit/ml/mpds175a/mpds175a.pdf
footprint TI-DW28_N (SOIC, 28-Leads, Body 17.9x7.5mm, Pitch 1.27mm, IPC Medium Density)
footprint TI-DW28_L (SOIC, 28-Leads, Body 17.9x7.5mm, Pitch 1.27mm, IPC High Density)
footprint TI-DW28_M (SOIC, 28-Leads, Body 17.9x7.5mm, Pitch 1.27mm, IPC Low Density)
pins: 1 VREFH (in) "Reference Input Voltage High. Sets maximum output voltage for all DACs.", 2 VOUTB (out) "DAC B Voltage Output.", 3 VOUTA (out) "DAC A Voltage Output.", 4 VSS (power) "Negative Analog Supply Voltage, 0V or -15V.", 5 GND (power) "Ground.", 6 ~{RESET} (in) "Asynchronous Reset Input. Sets DAC and input registers to either mid-scale (800H, DAC7724) or zero-scale (000H, DAC7725) when LOW.", 7 ~{LDAC} (in) "Load DAC Input. All DAC Registers are transparent when LOW.", 8 DB0 (io) "Data Bit 0. Least significant bit of 12-bit word.", 9 DB1 (io) "Data Bit 1", 10 DB2 (io) "Data Bit 2", 11 DB3 (io) "Data Bit 3", 12 DB4 (io) "Data Bit 4", 13 DB5 (io) "Data Bit 5", 14 DB6 (io) "Data Bit 6", 15 DB7 (io) "Data Bit 7", 16 DB8 (io) "Data Bit 8", 17 DB9 (io) "Data Bit 9", 18 DB10 (io) "Data Bit 10", 19 DB11 (io) "Data Bit 11. Most significant bit of 12-bit word.", 20 R/~{W} (in) "Read/Write Control Input (read = HIGH, write = LOW).", 21 A1 (in) "Register/DAC Select (C or D = HIGH, A or B = LOW).", 22 A0 (in) "Register/DAC Select (B or D = HIGH, A or C = LOW).", 23 ~{CS} (in) "Chip Select Input.", 24 VDD (power) "Positive Digital Supply, +5V.", 25 VCC (power) "Positive Analog Supply Voltage, +15V nominal.", 26 VOUTD (out) "DAC D Voltage Output.", 27 VOUTC (out) "DAC C Voltage Output.", 28 VREFL (in) "Reference Input Voltage Low. Sets minimum output voltage for all DACs."

## DAC7724UG4
designator U?
12-Bit Quad Voltage Output DAC, -40 to 85 degC, 28-pin SOIC (DW28), Green (RoHS & no Sb/Br); Manufacturer: Texas Instruments; PartNumber: DAC7724UG4; DAC Channels: 4; DNL(Max)(+/-LSB): 1; INL(Max)(+/-LSB): 2; Interface: Parallel; Power Consumption(Typ)(mW): 45; Resolution(Bits): 12; Settling Time(us): 8; SubFamily: Precision DAC (=<10MSPS); DatasheetVersion: SBAS112; PackageVersion: 4040000-6/G, 01/2011; PackageReference: DW28; PackageDescription: 28-Pin Plastic Small Outline, Body 17.90 x 7.50 mm, Pitch 1.27 mm; Supplier 1: Digi-Key; Supplier Part Number 1: DAC7724UG4-ND; Supplier 2: Mouser; Supplier Part Number 2: 595-DAC7724UG4; Eco-Plan: Green (RoHS & no Sb/Br); Mounting Technology: Surface Mount; Code_JEDEC: MS-013; ComponentLink1Description: Manufacturer URL; ComponentLink1URL: http://www.ti.com/; ComponentLink2Description: Datasheet; ComponentLink2URL: http://www.ti.com/general/docs/lit/getliterature.tsp?genericPartNumber=DAC7724&fileType=pdf; ComponentLink3Description: Package Specification; ComponentLink3URL: http://www.ti.com/lit/ml/mpds175a/mpds175a.pdf
footprint TI-DW28_N (SOIC, 28-Leads, Body 17.9x7.5mm, Pitch 1.27mm, IPC Medium Density)
footprint TI-DW28_L (SOIC, 28-Leads, Body 17.9x7.5mm, Pitch 1.27mm, IPC High Density)
footprint TI-DW28_M (SOIC, 28-Leads, Body 17.9x7.5mm, Pitch 1.27mm, IPC Low Density)
pins: 1 VREFH (in) "Reference Input Voltage High. Sets maximum output voltage for all DACs.", 2 VOUTB (out) "DAC B Voltage Output.", 3 VOUTA (out) "DAC A Voltage Output.", 4 VSS (power) "Negative Analog Supply Voltage, 0V or -15V.", 5 GND (power) "Ground.", 6 ~{RESET} (in) "Asynchronous Reset Input. Sets DAC and input registers to either mid-scale (800H, DAC7724) or zero-scale (000H, DAC7725) when LOW.", 7 ~{LDAC} (in) "Load DAC Input. All DAC Registers are transparent when LOW.", 8 DB0 (io) "Data Bit 0. Least significant bit of 12-bit word.", 9 DB1 (io) "Data Bit 1", 10 DB2 (io) "Data Bit 2", 11 DB3 (io) "Data Bit 3", 12 DB4 (io) "Data Bit 4", 13 DB5 (io) "Data Bit 5", 14 DB6 (io) "Data Bit 6", 15 DB7 (io) "Data Bit 7", 16 DB8 (io) "Data Bit 8", 17 DB9 (io) "Data Bit 9", 18 DB10 (io) "Data Bit 10", 19 DB11 (io) "Data Bit 11. Most significant bit of 12-bit word.", 20 R/~{W} (in) "Read/Write Control Input (read = HIGH, write = LOW).", 21 A1 (in) "Register/DAC Select (C or D = HIGH, A or B = LOW).", 22 A0 (in) "Register/DAC Select (B or D = HIGH, A or C = LOW).", 23 ~{CS} (in) "Chip Select Input.", 24 VDD (power) "Positive Digital Supply, +5V.", 25 VCC (power) "Positive Analog Supply Voltage, +15V nominal.", 26 VOUTD (out) "DAC D Voltage Output.", 27 VOUTC (out) "DAC C Voltage Output.", 28 VREFL (in) "Reference Input Voltage Low. Sets minimum output voltage for all DACs."

## DAC7725U
designator U?
12-Bit Quad Voltage Output DAC, -40 to 85 degC, 28-pin SOIC (DW28), Green (RoHS & no Sb/Br); Manufacturer: Texas Instruments; PartNumber: DAC7725U; DAC Channels: 4; DNL(Max)(+/-LSB): 1; INL(Max)(+/-LSB): 2; Interface: Parallel; Power Consumption(Typ)(mW): 45; Resolution(Bits): 12; Settling Time(us): 8; SubFamily: Precision DAC (=<10MSPS); DatasheetVersion: SBAS112; PackageVersion: 4040000-6/G, 01/2011; PackageReference: DW28; PackageDescription: 28-Pin Plastic Small Outline, Body 17.90 x 7.50 mm, Pitch 1.27 mm; Supplier 1: Digi-Key; Supplier Part Number 1: DAC7725U-ND; Supplier 2: Mouser; Supplier Part Number 2: 595-DAC7725U; Eco-Plan: Green (RoHS & no Sb/Br); Mounting Technology: Surface Mount; Code_JEDEC: MS-013; ComponentLink1Description: Manufacturer URL; ComponentLink1URL: http://www.ti.com/; ComponentLink2Description: Datasheet; ComponentLink2URL: http://www.ti.com/general/docs/lit/getliterature.tsp?genericPartNumber=DAC7725&fileType=pdf; ComponentLink3Description: Package Specification; ComponentLink3URL: http://www.ti.com/lit/ml/mpds175a/mpds175a.pdf
footprint TI-DW28_N (SOIC, 28-Leads, Body 17.9x7.5mm, Pitch 1.27mm, IPC Medium Density)
footprint TI-DW28_L (SOIC, 28-Leads, Body 17.9x7.5mm, Pitch 1.27mm, IPC High Density)
footprint TI-DW28_M (SOIC, 28-Leads, Body 17.9x7.5mm, Pitch 1.27mm, IPC Low Density)
pins: 1 VREFH (in) "Reference Input Voltage High. Sets maximum output voltage for all DACs.", 2 VOUTB (out) "DAC B Voltage Output.", 3 VOUTA (out) "DAC A Voltage Output.", 4 VSS (power) "Negative Analog Supply Voltage, 0V or -15V.", 5 GND (power) "Ground.", 6 ~{RESET} (in) "Asynchronous Reset Input. Sets DAC and input registers to either mid-scale (800H, DAC7724) or zero-scale (000H, DAC7725) when LOW.", 7 ~{LDAC} (in) "Load DAC Input. All DAC Registers are transparent when LOW.", 8 DB0 (io) "Data Bit 0. Least significant bit of 12-bit word.", 9 DB1 (io) "Data Bit 1", 10 DB2 (io) "Data Bit 2", 11 DB3 (io) "Data Bit 3", 12 DB4 (io) "Data Bit 4", 13 DB5 (io) "Data Bit 5", 14 DB6 (io) "Data Bit 6", 15 DB7 (io) "Data Bit 7", 16 DB8 (io) "Data Bit 8", 17 DB9 (io) "Data Bit 9", 18 DB10 (io) "Data Bit 10", 19 DB11 (io) "Data Bit 11. Most significant bit of 12-bit word.", 20 R/~{W} (in) "Read/Write Control Input (read = HIGH, write = LOW).", 21 A1 (in) "Register/DAC Select (C or D = HIGH, A or B = LOW).", 22 A0 (in) "Register/DAC Select (B or D = HIGH, A or C = LOW).", 23 ~{CS} (in) "Chip Select Input.", 24 VDD (power) "Positive Digital Supply, +5V.", 25 VCC (power) "Positive Analog Supply Voltage, +15V nominal.", 26 VOUTD (out) "DAC D Voltage Output.", 27 VOUTC (out) "DAC C Voltage Output.", 28 VREFL (in) "Reference Input Voltage Low. Sets minimum output voltage for all DACs."

## DAC7725U/1K
designator U?
12-Bit Quad Voltage Output DAC, -40 to 85 degC, 28-pin SOIC (DW28), Green (RoHS & no Sb/Br); Manufacturer: Texas Instruments; PartNumber: DAC7725U/1K; DAC Channels: 4; DNL(Max)(+/-LSB): 1; INL(Max)(+/-LSB): 2; Interface: Parallel; Power Consumption(Typ)(mW): 45; Resolution(Bits): 12; Settling Time(us): 8; SubFamily: Precision DAC (=<10MSPS); DatasheetVersion: SBAS112; PackageVersion: 4040000-6/G, 01/2011; PackageReference: DW28; PackageDescription: 28-Pin Plastic Small Outline, Body 17.90 x 7.50 mm, Pitch 1.27 mm; Supplier 1: Digi-Key; Supplier Part Number 1: DAC7725U/1K-ND; Supplier 2: Mouser; Supplier Part Number 2: 595-DAC7725U/1K; Eco-Plan: Green (RoHS & no Sb/Br); Mounting Technology: Surface Mount; Code_JEDEC: MS-013; ComponentLink1Description: Manufacturer URL; ComponentLink1URL: http://www.ti.com/; ComponentLink2Description: Datasheet; ComponentLink2URL: http://www.ti.com/general/docs/lit/getliterature.tsp?genericPartNumber=DAC7725&fileType=pdf; ComponentLink3Description: Package Specification; ComponentLink3URL: http://www.ti.com/lit/ml/mpds175a/mpds175a.pdf
footprint TI-DW28_N (SOIC, 28-Leads, Body 17.9x7.5mm, Pitch 1.27mm, IPC Medium Density)
footprint TI-DW28_L (SOIC, 28-Leads, Body 17.9x7.5mm, Pitch 1.27mm, IPC High Density)
footprint TI-DW28_M (SOIC, 28-Leads, Body 17.9x7.5mm, Pitch 1.27mm, IPC Low Density)
pins: 1 VREFH (in) "Reference Input Voltage High. Sets maximum output voltage for all DACs.", 2 VOUTB (out) "DAC B Voltage Output.", 3 VOUTA (out) "DAC A Voltage Output.", 4 VSS (power) "Negative Analog Supply Voltage, 0V or -15V.", 5 GND (power) "Ground.", 6 ~{RESET} (in) "Asynchronous Reset Input. Sets DAC and input registers to either mid-scale (800H, DAC7724) or zero-scale (000H, DAC7725) when LOW.", 7 ~{LDAC} (in) "Load DAC Input. All DAC Registers are transparent when LOW.", 8 DB0 (io) "Data Bit 0. Least significant bit of 12-bit word.", 9 DB1 (io) "Data Bit 1", 10 DB2 (io) "Data Bit 2", 11 DB3 (io) "Data Bit 3", 12 DB4 (io) "Data Bit 4", 13 DB5 (io) "Data Bit 5", 14 DB6 (io) "Data Bit 6", 15 DB7 (io) "Data Bit 7", 16 DB8 (io) "Data Bit 8", 17 DB9 (io) "Data Bit 9", 18 DB10 (io) "Data Bit 10", 19 DB11 (io) "Data Bit 11. Most significant bit of 12-bit word.", 20 R/~{W} (in) "Read/Write Control Input (read = HIGH, write = LOW).", 21 A1 (in) "Register/DAC Select (C or D = HIGH, A or B = LOW).", 22 A0 (in) "Register/DAC Select (B or D = HIGH, A or C = LOW).", 23 ~{CS} (in) "Chip Select Input.", 24 VDD (power) "Positive Digital Supply, +5V.", 25 VCC (power) "Positive Analog Supply Voltage, +15V nominal.", 26 VOUTD (out) "DAC D Voltage Output.", 27 VOUTC (out) "DAC C Voltage Output.", 28 VREFL (in) "Reference Input Voltage Low. Sets minimum output voltage for all DACs."

## DAC7725U/1KG4
designator U?
12-Bit Quad Voltage Output DAC, -40 to 85 degC, 28-pin SOIC (DW28), Green (RoHS & no Sb/Br); Manufacturer: Texas Instruments; PartNumber: DAC7725U/1KG4; DAC Channels: 4; DNL(Max)(+/-LSB): 1; INL(Max)(+/-LSB): 2; Interface: Parallel; Power Consumption(Typ)(mW): 45; Resolution(Bits): 12; Settling Time(us): 8; SubFamily: Precision DAC (=<10MSPS); DatasheetVersion: SBAS112; PackageVersion: 4040000-6/G, 01/2011; PackageReference: DW28; PackageDescription: 28-Pin Plastic Small Outline, Body 17.90 x 7.50 mm, Pitch 1.27 mm; Supplier 1: Digi-Key; Supplier Part Number 1: DAC7725U/1KG4-ND; Supplier 2: Mouser; Supplier Part Number 2: 595-DAC7725U/1KG4; Eco-Plan: Green (RoHS & no Sb/Br); Mounting Technology: Surface Mount; Code_JEDEC: MS-013; ComponentLink1Description: Manufacturer URL; ComponentLink1URL: http://www.ti.com/; ComponentLink2Description: Datasheet; ComponentLink2URL: http://www.ti.com/general/docs/lit/getliterature.tsp?genericPartNumber=DAC7725&fileType=pdf; ComponentLink3Description: Package Specification; ComponentLink3URL: http://www.ti.com/lit/ml/mpds175a/mpds175a.pdf
footprint TI-DW28_N (SOIC, 28-Leads, Body 17.9x7.5mm, Pitch 1.27mm, IPC Medium Density)
footprint TI-DW28_L (SOIC, 28-Leads, Body 17.9x7.5mm, Pitch 1.27mm, IPC High Density)
footprint TI-DW28_M (SOIC, 28-Leads, Body 17.9x7.5mm, Pitch 1.27mm, IPC Low Density)
pins: 1 VREFH (in) "Reference Input Voltage High. Sets maximum output voltage for all DACs.", 2 VOUTB (out) "DAC B Voltage Output.", 3 VOUTA (out) "DAC A Voltage Output.", 4 VSS (power) "Negative Analog Supply Voltage, 0V or -15V.", 5 GND (power) "Ground.", 6 ~{RESET} (in) "Asynchronous Reset Input. Sets DAC and input registers to either mid-scale (800H, DAC7724) or zero-scale (000H, DAC7725) when LOW.", 7 ~{LDAC} (in) "Load DAC Input. All DAC Registers are transparent when LOW.", 8 DB0 (io) "Data Bit 0. Least significant bit of 12-bit word.", 9 DB1 (io) "Data Bit 1", 10 DB2 (io) "Data Bit 2", 11 DB3 (io) "Data Bit 3", 12 DB4 (io) "Data Bit 4", 13 DB5 (io) "Data Bit 5", 14 DB6 (io) "Data Bit 6", 15 DB7 (io) "Data Bit 7", 16 DB8 (io) "Data Bit 8", 17 DB9 (io) "Data Bit 9", 18 DB10 (io) "Data Bit 10", 19 DB11 (io) "Data Bit 11. Most significant bit of 12-bit word.", 20 R/~{W} (in) "Read/Write Control Input (read = HIGH, write = LOW).", 21 A1 (in) "Register/DAC Select (C or D = HIGH, A or B = LOW).", 22 A0 (in) "Register/DAC Select (B or D = HIGH, A or C = LOW).", 23 ~{CS} (in) "Chip Select Input.", 24 VDD (power) "Positive Digital Supply, +5V.", 25 VCC (power) "Positive Analog Supply Voltage, +15V nominal.", 26 VOUTD (out) "DAC D Voltage Output.", 27 VOUTC (out) "DAC C Voltage Output.", 28 VREFL (in) "Reference Input Voltage Low. Sets minimum output voltage for all DACs."